# Altium integrated library Altium_WE-XTAL (rev19a).IntLib: 251 symbols (part 3 of 4)
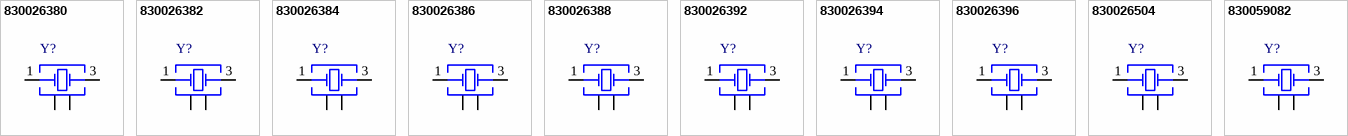
[diagram p19: symbols 830026380 to 830059082]

## 830026396
designator Y?, comment 24.576MHz, +/-30ppm, 16pF  (value not drawn)
WE-XTAL Quartz Crystal, size 12SMX, 24.576MHz, +/-30ppm, 16pF; Part Number: 830026396; Frequency Stability: 50ppm; ComponentLink1Description: Manufacturer; ComponentLink1URL: http://www.we-online.de; ComponentLink2Description: Datasheet; ComponentLink2URL: https://katalog.we-online.com/pbs/datasheet/830026396.pdf; Published Date: March 2019; Publisher: Wurth Elektronik; Size: 12SMX; Operating Temperature: -20 up to +70degC; Mounting Technology: SMT; Packaging: Tape and Reel; Load Capacitance: 16pF; Frequency Tolerance: +/-30ppm; Frequency: 24.576MHz
footprint WE-XTAL_12SMX
pins: 1 OSC1, 2 GND, 3 OSC2, 4 GND

## 830026504
designator Y?, comment 30MHz, +/-30ppm, 16pF  (value not drawn)
WE-XTAL Quartz Crystal, size 12SMX, 30MHz, +/-30ppm, 16pF; Part Number: 830026504; Frequency Stability: 50ppm; ComponentLink1Description: Manufacturer; ComponentLink1URL: http://www.we-online.de; ComponentLink2Description: Datasheet; ComponentLink2URL: https://katalog.we-online.com/pbs/datasheet/830026504.pdf; Published Date: March 2019; Publisher: Wurth Elektronik; Size: 12SMX; Operating Temperature: -20 up to +70degC; Mounting Technology: SMT; Packaging: Tape and Reel; Load Capacitance: 16pF; Frequency Tolerance: +/-30ppm; Frequency: 30MHz
footprint WE-XTAL_12SMX
pins: 1 OSC1, 2 GND, 3 OSC2, 4 GND

## 830059082
designator Y?, comment 8MHz, +/-20ppm, 10pF  (value not drawn)
WE-XTAL Quartz Crystal, size 12SMX, 8MHz, +/-20ppm, 10pF; Part Number: 830059082; Frequency Stability: 50ppm; ComponentLink1Description: Manufacturer; ComponentLink1URL: http://www.we-online.de; ComponentLink2Description: Datasheet; ComponentLink2URL: https://katalog.we-online.com/pbs/datasheet/830059082.pdf; Published Date: March 2019; Publisher: Wurth Elektronik; Size: 12SMX; Operating Temperature: -20 up to +70degC; Mounting Technology: SMT; Packaging: Tape and Reel; Load Capacitance: 10pF; Frequency Tolerance: +/-20ppm; Frequency: 8MHz
footprint WE-XTAL_12SMX
pins: 1 OSC1, 2 GND, 3 OSC2, 4 GND


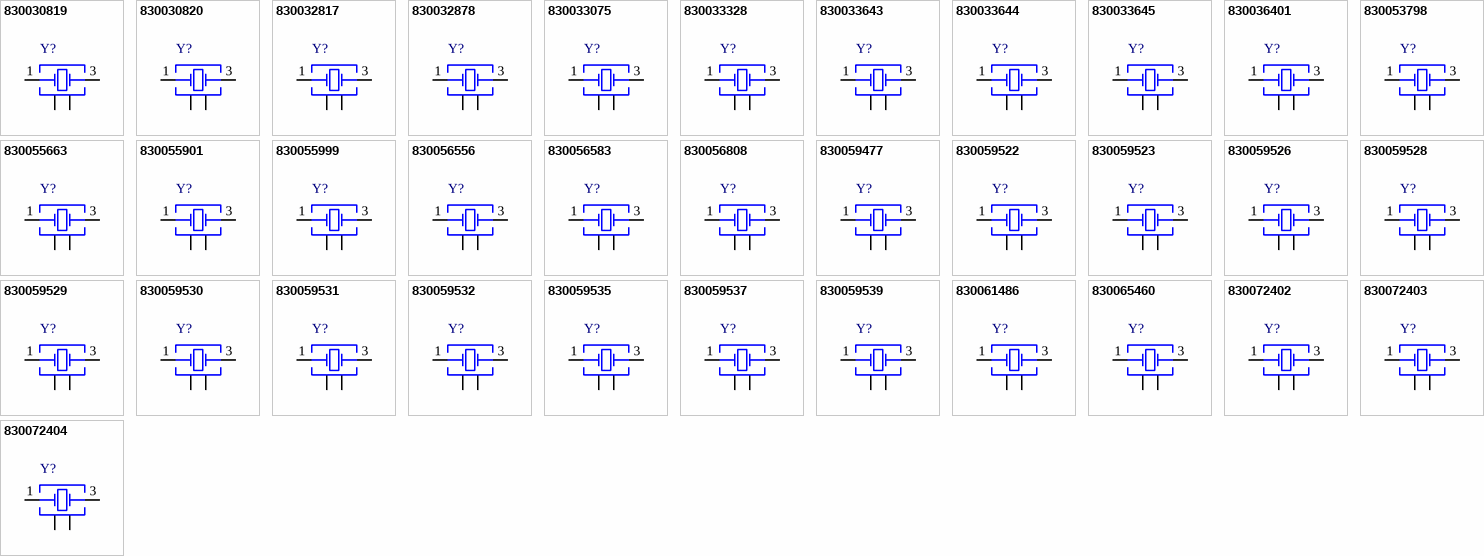
[diagram p11: symbols 830030819 to 830072404]

## 830030819
designator Y?, comment 16MHz, +/-50ppm, 18pF  (value not drawn)
WE-XTAL Quartz Crystal, size CFPX-104, 16MHz, +/-50ppm, 18pF; Part Number: 830030819; Frequency Stability: 50ppm; ComponentLink1Description: Manufacturer; ComponentLink1URL: http://www.we-online.de; ComponentLink2Description: Datasheet; ComponentLink2URL: https://katalog.we-online.com/pbs/datasheet/830030819.pdf; Published Date: March 2019; Publisher: Wurth Elektronik; Size: CFPX-104; Operating Temperature: -10 up to +60degC; Mounting Technology: SMT; Packaging: Tape and Reel; Load Capacitance: 18pF; Frequency Tolerance: +/-50ppm; Frequency: 16MHz
footprint WE-XTAL_CFPX-104
pins: 1 OSC1, 2 GND, 3 OSC2, 4 GND

## 830030820
designator Y?, comment 30MHz, +/-50ppm, 18pF  (value not drawn)
WE-XTAL Quartz Crystal, size CFPX-104, 30MHz, +/-50ppm, 18pF; Part Number: 830030820; Frequency Stability: 50ppm; ComponentLink1Description: Manufacturer; ComponentLink1URL: http://www.we-online.de; ComponentLink2Description: Datasheet; ComponentLink2URL: https://katalog.we-online.com/pbs/datasheet/830030820.pdf; Published Date: March 2019; Publisher: Wurth Elektronik; Size: CFPX-104; Operating Temperature: -10 up to +60degC; Mounting Technology: SMT; Packaging: Tape and Reel; Load Capacitance: 18pF; Frequency Tolerance: +/-50ppm; Frequency: 30MHz
footprint WE-XTAL_CFPX-104
pins: 1 OSC1, 2 GND, 3 OSC2, 4 GND

## 830032817
designator Y?, comment 24MHz, +/-50ppm, 18pF  (value not drawn)
WE-XTAL Quartz Crystal, size CFPX-104, 24MHz, +/-50ppm, 18pF; Part Number: 830032817; Frequency Stability: 50ppm; ComponentLink1Description: Manufacturer; ComponentLink1URL: http://www.we-online.de; ComponentLink2Description: Datasheet; ComponentLink2URL: https://katalog.we-online.com/pbs/datasheet/830032817.pdf; Published Date: March 2019; Publisher: Wurth Elektronik; Size: CFPX-104; Operating Temperature: -10 up to +60degC; Mounting Technology: SMT; Packaging: Tape and Reel; Load Capacitance: 18pF; Frequency Tolerance: +/-50ppm; Frequency: 24MHz
footprint WE-XTAL_CFPX-104
pins: 1 OSC1, 2 GND, 3 OSC2, 4 GND

## 830032878
designator Y?, comment 12MHz, +/-50ppm, 18pF  (value not drawn)
WE-XTAL Quartz Crystal, size CFPX-104, 12MHz, +/-50ppm, 18pF; Part Number: 830032878; Frequency Stability: 50ppm; ComponentLink1Description: Manufacturer; ComponentLink1URL: http://www.we-online.de; ComponentLink2Description: Datasheet; ComponentLink2URL: https://katalog.we-online.com/pbs/datasheet/830032878.pdf; Published Date: March 2019; Publisher: Wurth Elektronik; Size: CFPX-104; Operating Temperature: -10 up to +60degC; Mounting Technology: SMT; Packaging: Tape and Reel; Load Capacitance: 18pF; Frequency Tolerance: +/-50ppm; Frequency: 12MHz
footprint WE-XTAL_CFPX-104
pins: 1 OSC1, 2 GND, 3 OSC2, 4 GND

## 830033075
designator Y?, comment 25MHz, +/-50ppm, 18pF  (value not drawn)
WE-XTAL Quartz Crystal, size CFPX-104, 25MHz, +/-50ppm, 18pF; Part Number: 830033075; Frequency Stability: 50ppm; ComponentLink1Description: Manufacturer; ComponentLink1URL: http://www.we-online.de; ComponentLink2Description: Datasheet; ComponentLink2URL: https://katalog.we-online.com/pbs/datasheet/830033075.pdf; Published Date: March 2019; Publisher: Wurth Elektronik; Size: CFPX-104; Operating Temperature: -10 up to +60degC; Mounting Technology: SMT; Packaging: Tape and Reel; Load Capacitance: 18pF; Frequency Tolerance: +/-50ppm; Frequency: 25MHz
footprint WE-XTAL_CFPX-104
pins: 1 OSC1, 2 GND, 3 OSC2, 4 GND

## 830033328
designator Y?, comment 14.7456MHz, +/-50ppm, 18pF  (value not drawn)
WE-XTAL Quartz Crystal, size CFPX-104, 14.7456MHz, +/-50ppm, 18pF; Part Number: 830033328; Frequency Stability: 50ppm; ComponentLink1Description: Manufacturer; ComponentLink1URL: http://www.we-online.de; ComponentLink2Description: Datasheet; ComponentLink2URL: https://katalog.we-online.com/pbs/datasheet/830033328.pdf; Published Date: March 2019; Publisher: Wurth Elektronik; Size: CFPX-104; Operating Temperature: -10 up to +60degC; Mounting Technology: SMT; Packaging: Tape and Reel; Load Capacitance: 18pF; Frequency Tolerance: +/-50ppm; Frequency: 14.7456MHz
footprint WE-XTAL_CFPX-104
pins: 1 OSC1, 2 GND, 3 OSC2, 4 GND

## 830033643
designator Y?, comment 14.31818MHz, +/-50ppm, 18pF  (value not drawn)
WE-XTAL Quartz Crystal, size CFPX-104, 14.31818MHz, +/-50ppm, 18pF; Part Number: 830033643; Frequency Stability: 50ppm; ComponentLink1Description: Manufacturer; ComponentLink1URL: http://www.we-online.de; ComponentLink2Description: Datasheet; ComponentLink2URL: https://katalog.we-online.com/pbs/datasheet/830033643.pdf; Published Date: March 2019; Publisher: Wurth Elektronik; Size: CFPX-104; Operating Temperature: -10 up to +60degC; Mounting Technology: SMT; Packaging: Tape and Reel; Load Capacitance: 18pF; Frequency Tolerance: +/-50ppm; Frequency: 14.31818MHz
footprint WE-XTAL_CFPX-104
pins: 1 OSC1, 2 GND, 3 OSC2, 4 GND

## 830033644
designator Y?, comment 24.576MHz, +/-50ppm, 18pF  (value not drawn)
WE-XTAL Quartz Crystal, size CFPX-104, 24.576MHz, +/-50ppm, 18pF; Part Number: 830033644; Frequency Stability: 50ppm; ComponentLink1Description: Manufacturer; ComponentLink1URL: http://www.we-online.de; ComponentLink2Description: Datasheet; ComponentLink2URL: https://katalog.we-online.com/pbs/datasheet/830033644.pdf; Published Date: March 2019; Publisher: Wurth Elektronik; Size: CFPX-104; Operating Temperature: -10 up to +60degC; Mounting Technology: SMT; Packaging: Tape and Reel; Load Capacitance: 18pF; Frequency Tolerance: +/-50ppm; Frequency: 24.576MHz
footprint WE-XTAL_CFPX-104
pins: 1 OSC1, 2 GND, 3 OSC2, 4 GND

## 830033645
designator Y?, comment 40MHz, +/-50ppm, 18pF  (value not drawn)
WE-XTAL Quartz Crystal, size CFPX-104, 40MHz, +/-50ppm, 18pF; Part Number: 830033645; Frequency Stability: 50ppm; ComponentLink1Description: Manufacturer; ComponentLink1URL: http://www.we-online.de; ComponentLink2Description: Datasheet; ComponentLink2URL: https://katalog.we-online.com/pbs/datasheet/830033645.pdf; Published Date: March 2019; Publisher: Wurth Elektronik; Size: CFPX-104; Operating Temperature: -10 up to +60degC; Mounting Technology: SMT; Packaging: Tape and Reel; Load Capacitance: 18pF; Frequency Tolerance: +/-50ppm; Frequency: 40MHz
footprint WE-XTAL_CFPX-104
pins: 1 OSC1, 2 GND, 3 OSC2, 4 GND

## 830036401
designator Y?, comment 12MHz, +/-20ppm, 18pF  (value not drawn)
WE-XTAL Quartz Crystal, size CFPX-104, 12MHz, +/-20ppm, 18pF; Part Number: 830036401; Frequency Stability: 50ppm; ComponentLink1Description: Manufacturer; ComponentLink1URL: http://www.we-online.de; ComponentLink2Description: Datasheet; ComponentLink2URL: https://katalog.we-online.com/pbs/datasheet/830036401.pdf; Published Date: March 2019; Publisher: Wurth Elektronik; Size: CFPX-104; Operating Temperature: -20 up to +70degC; Mounting Technology: SMT; Packaging: Tape and Reel; Load Capacitance: 18pF; Frequency Tolerance: +/-20ppm; Frequency: 12MHz
footprint WE-XTAL_CFPX-104
pins: 1 OSC1, 2 GND, 3 OSC2, 4 GND

## 830053798
designator Y?, comment 24MHz, +/-10ppm, 18pF  (value not drawn)
WE-XTAL Quartz Crystal, size CFPX-104, 24MHz, +/-10ppm, 18pF; Part Number: 830053798; Frequency Stability: 25ppm; ComponentLink1Description: Manufacturer; ComponentLink1URL: http://www.we-online.de; ComponentLink2Description: Datasheet; ComponentLink2URL: https://katalog.we-online.com/pbs/datasheet/830053798.pdf; Published Date: March 2019; Publisher: Wurth Elektronik; Size: CFPX-104; Operating Temperature: -40 up to +85degC; Mounting Technology: SMT; Packaging: Tape and Reel; Load Capacitance: 18pF; Frequency Tolerance: +/-10ppm; Frequency: 24MHz
footprint WE-XTAL_CFPX-104
pins: 1 OSC1, 2 GND, 3 OSC2, 4 GND

## 830055663
designator Y?, comment 8MHz, +/-20ppm, 18pF  (value not drawn)
WE-XTAL Quartz Crystal, size CFPX-104, 8MHz, +/-20ppm, 18pF; Part Number: 830055663; Frequency Stability: 30ppm; ComponentLink1Description: Manufacturer; ComponentLink1URL: http://www.we-online.de; ComponentLink2Description: Datasheet; ComponentLink2URL: https://katalog.we-online.com/pbs/datasheet/830055663.pdf; Published Date: March 2019; Publisher: Wurth Elektronik; Size: CFPX-104; Operating Temperature: -40 up to +85degC; Mounting Technology: SMT; Packaging: Tape and Reel; Load Capacitance: 18pF; Frequency Tolerance: +/-20ppm; Frequency: 8MHz
footprint WE-XTAL_CFPX-104
pins: 1 OSC1, 2 GND, 3 OSC2, 4 GND

## 830055901
designator Y?, comment 8MHz, +/-20ppm, 18pF  (value not drawn)
WE-XTAL Quartz Crystal, size CFPX-104, 8MHz, +/-20ppm, 18pF; Part Number: 830055901; Frequency Stability: 50ppm; ComponentLink1Description: Manufacturer; ComponentLink1URL: http://www.we-online.de; ComponentLink2Description: Datasheet; ComponentLink2URL: https://katalog.we-online.com/pbs/datasheet/830055901.pdf; Published Date: March 2019; Publisher: Wurth Elektronik; Size: CFPX-104; Operating Temperature: -20 up to +70degC; Mounting Technology: SMT; Packaging: Tape and Reel; Load Capacitance: 18pF; Frequency Tolerance: +/-20ppm; Frequency: 8MHz
footprint WE-XTAL_CFPX-104
pins: 1 OSC1, 2 GND, 3 OSC2, 4 GND

## 830055999
designator Y?, comment 12MHz, +/-30ppm, 18pF  (value not drawn)
WE-XTAL Quartz Crystal, size CFPX-104, 12MHz, +/-30ppm, 18pF; Part Number: 830055999; Frequency Stability: 30ppm; ComponentLink1Description: Manufacturer; ComponentLink1URL: http://www.we-online.de; ComponentLink2Description: Datasheet; ComponentLink2URL: https://katalog.we-online.com/pbs/datasheet/830055999.pdf; Published Date: March 2019; Publisher: Wurth Elektronik; Size: CFPX-104; Operating Temperature: -40 up to +85degC; Mounting Technology: SMT; Packaging: Tape and Reel; Load Capacitance: 18pF; Frequency Tolerance: +/-30ppm; Frequency: 12MHz
footprint WE-XTAL_CFPX-104
pins: 1 OSC1, 2 GND, 3 OSC2, 4 GND

## 830056556
designator Y?, comment 12.5MHz, +/-50ppm, 18pF  (value not drawn)
WE-XTAL Quartz Crystal, size CFPX-104, 12.5MHz, +/-50ppm, 18pF; Part Number: 830056556; Frequency Stability: 50ppm; ComponentLink1Description: Manufacturer; ComponentLink1URL: http://www.we-online.de; ComponentLink2Description: Datasheet; ComponentLink2URL: https://katalog.we-online.com/pbs/datasheet/830056556.pdf; Published Date: March 2019; Publisher: Wurth Elektronik; Size: CFPX-104; Operating Temperature: -40 up to +85degC; Mounting Technology: SMT; Packaging: Tape and Reel; Load Capacitance: 18pF; Frequency Tolerance: +/-50ppm; Frequency: 12.5MHz
footprint WE-XTAL_CFPX-104
pins: 1 OSC1, 2 GND, 3 OSC2, 4 GND

## 830056583
designator Y?, comment 10MHz, +/-30ppm, 12pF  (value not drawn)
WE-XTAL Quartz Crystal, size CFPX-104, 10MHz, +/-30ppm, 12pF; Part Number: 830056583; Frequency Stability: 30ppm; ComponentLink1Description: Manufacturer; ComponentLink1URL: http://www.we-online.de; ComponentLink2Description: Datasheet; ComponentLink2URL: https://katalog.we-online.com/pbs/datasheet/830056583.pdf; Published Date: March 2019; Publisher: Wurth Elektronik; Size: CFPX-104; Operating Temperature: -40 up to +85degC; Mounting Technology: SMT; Packaging: Tape and Reel; Load Capacitance: 12pF; Frequency Tolerance: +/-30ppm; Frequency: 10MHz
footprint WE-XTAL_CFPX-104
pins: 1 OSC1, 2 GND, 3 OSC2, 4 GND

## 830056808
designator Y?, comment 20MHz, +/-20ppm, 18pF  (value not drawn)
WE-XTAL Quartz Crystal, size CFPX-104, 20MHz, +/-20ppm, 18pF; Part Number: 830056808; Frequency Stability: 30ppm; ComponentLink1Description: Manufacturer; ComponentLink1URL: http://www.we-online.de; ComponentLink2Description: Datasheet; ComponentLink2URL: https://katalog.we-online.com/pbs/datasheet/830056808.pdf; Published Date: March 2019; Publisher: Wurth Elektronik; Size: CFPX-104; Operating Temperature: -40 up to +85degC; Mounting Technology: SMT; Packaging: Tape and Reel; Load Capacitance: 18pF; Frequency Tolerance: +/-20ppm; Frequency: 20MHz
footprint WE-XTAL_CFPX-104
pins: 1 OSC1, 2 GND, 3 OSC2, 4 GND

## 830059477
designator Y?, comment 12.8MHz, +/-10ppm, 15pF  (value not drawn)
WE-XTAL Quartz Crystal, size CFPX-104, 12.8MHz, +/-10ppm, 15pF; Part Number: 830059477; Frequency Stability: 20ppm; ComponentLink1Description: Manufacturer; ComponentLink1URL: http://www.we-online.de; ComponentLink2Description: Datasheet; ComponentLink2URL: https://katalog.we-online.com/pbs/datasheet/830059477.pdf; Published Date: March 2019; Publisher: Wurth Elektronik; Size: CFPX-104; Operating Temperature: -40 up to +85degC; Mounting Technology: SMT; Packaging: Tape and Reel; Load Capacitance: 15pF; Frequency Tolerance: +/-10ppm; Frequency: 12.8MHz
footprint WE-XTAL_CFPX-104
pins: 1 OSC1, 2 GND, 3 OSC2, 4 GND

## 830059522
designator Y?, comment 12MHz, +/-20ppm, 18pF  (value not drawn)
WE-XTAL Quartz Crystal, size CFPX-104, 12MHz, +/-20ppm, 18pF; Part Number: 830059522; Frequency Stability: 30ppm; ComponentLink1Description: Manufacturer; ComponentLink1URL: http://www.we-online.de; ComponentLink2Description: Datasheet; ComponentLink2URL: https://katalog.we-online.com/pbs/datasheet/830059522.pdf; Published Date: March 2019; Publisher: Wurth Elektronik; Size: CFPX-104; Operating Temperature: -40 up to +85degC; Mounting Technology: SMT; Packaging: Tape and Reel; Load Capacitance: 18pF; Frequency Tolerance: +/-20ppm; Frequency: 12MHz
footprint WE-XTAL_CFPX-104
pins: 1 OSC1, 2 GND, 3 OSC2, 4 GND

## 830059523
designator Y?, comment 12.288MHz, +/-20ppm, 18pF  (value not drawn)
WE-XTAL Quartz Crystal, size CFPX-104, 12.288MHz, +/-20ppm, 18pF; Part Number: 830059523; Frequency Stability: 30ppm; ComponentLink1Description: Manufacturer; ComponentLink1URL: http://www.we-online.de; ComponentLink2Description: Datasheet; ComponentLink2URL: https://katalog.we-online.com/pbs/datasheet/830059523.pdf; Published Date: March 2019; Publisher: Wurth Elektronik; Size: CFPX-104; Operating Temperature: -40 up to +85degC; Mounting Technology: SMT; Packaging: Tape and Reel; Load Capacitance: 18pF; Frequency Tolerance: +/-20ppm; Frequency: 12.288MHz
footprint WE-XTAL_CFPX-104
pins: 1 OSC1, 2 GND, 3 OSC2, 4 GND

## 830059526
designator Y?, comment 14.31818MHz, +/-20ppm, 18pF  (value not drawn)
WE-XTAL Quartz Crystal, size CFPX-104, 14.31818MHz, +/-20ppm, 18pF; Part Number: 830059526; Frequency Stability: 30ppm; ComponentLink1Description: Manufacturer; ComponentLink1URL: http://www.we-online.de; ComponentLink2Description: Datasheet; ComponentLink2URL: https://katalog.we-online.com/pbs/datasheet/830059526.pdf; Published Date: March 2019; Publisher: Wurth Elektronik; Size: CFPX-104; Operating Temperature: -40 up to +85degC; Mounting Technology: SMT; Packaging: Tape and Reel; Load Capacitance: 18pF; Frequency Tolerance: +/-20ppm; Frequency: 14.31818MHz
footprint WE-XTAL_CFPX-104
pins: 1 OSC1, 2 GND, 3 OSC2, 4 GND

## 830059528
designator Y?, comment 16.384MHz, +/-20ppm, 18pF  (value not drawn)
WE-XTAL Quartz Crystal, size CFPX-104, 16.384MHz, +/-20ppm, 18pF; Part Number: 830059528; Frequency Stability: 30ppm; ComponentLink1Description: Manufacturer; ComponentLink1URL: http://www.we-online.de; ComponentLink2Description: Datasheet; ComponentLink2URL: https://katalog.we-online.com/pbs/datasheet/830059528.pdf; Published Date: March 2019; Publisher: Wurth Elektronik; Size: CFPX-104; Operating Temperature: -40 up to +85degC; Mounting Technology: SMT; Packaging: Tape and Reel; Load Capacitance: 18pF; Frequency Tolerance: +/-20ppm; Frequency: 16.384MHz
footprint WE-XTAL_CFPX-104
pins: 1 OSC1, 2 GND, 3 OSC2, 4 GND

## 830059529
designator Y?, comment 18.432MHz, +/-20ppm, 18pF  (value not drawn)
WE-XTAL Quartz Crystal, size CFPX-104, 18.432MHz, +/-20ppm, 18pF; Part Number: 830059529; Frequency Stability: 30ppm; ComponentLink1Description: Manufacturer; ComponentLink1URL: http://www.we-online.de; ComponentLink2Description: Datasheet; ComponentLink2URL: https://katalog.we-online.com/pbs/datasheet/830059529.pdf; Published Date: March 2019; Publisher: Wurth Elektronik; Size: CFPX-104; Operating Temperature: -40 up to +85degC; Mounting Technology: SMT; Packaging: Tape and Reel; Load Capacitance: 18pF; Frequency Tolerance: +/-20ppm; Frequency: 18.432MHz
footprint WE-XTAL_CFPX-104
pins: 1 OSC1, 2 GND, 3 OSC2, 4 GND

## 830059530
designator Y?, comment 24MHz, +/-20ppm, 18pF  (value not drawn)
WE-XTAL Quartz Crystal, size CFPX-104, 24MHz, +/-20ppm, 18pF; Part Number: 830059530; Frequency Stability: 30ppm; ComponentLink1Description: Manufacturer; ComponentLink1URL: http://www.we-online.de; ComponentLink2Description: Datasheet; ComponentLink2URL: https://katalog.we-online.com/pbs/datasheet/830059530.pdf; Published Date: March 2019; Publisher: Wurth Elektronik; Size: CFPX-104; Operating Temperature: -40 up to +85degC; Mounting Technology: SMT; Packaging: Tape and Reel; Load Capacitance: 18pF; Frequency Tolerance: +/-20ppm; Frequency: 24MHz
footprint WE-XTAL_CFPX-104
pins: 1 OSC1, 2 GND, 3 OSC2, 4 GND

## 830059531
designator Y?, comment 24.576MHz, +/-20ppm, 18pF  (value not drawn)
WE-XTAL Quartz Crystal, size CFPX-104, 24.576MHz, +/-20ppm, 18pF; Part Number: 830059531; Frequency Stability: 30ppm; ComponentLink1Description: Manufacturer; ComponentLink1URL: http://www.we-online.de; ComponentLink2Description: Datasheet; ComponentLink2URL: https://katalog.we-online.com/pbs/datasheet/830059531.pdf; Published Date: March 2019; Publisher: Wurth Elektronik; Size: CFPX-104; Operating Temperature: -40 up to +85degC; Mounting Technology: SMT; Packaging: Tape and Reel; Load Capacitance: 18pF; Frequency Tolerance: +/-20ppm; Frequency: 24.576MHz
footprint WE-XTAL_CFPX-104
pins: 1 OSC1, 2 GND, 3 OSC2, 4 GND

## 830059532
designator Y?, comment 25MHz, +/-20ppm, 18pF  (value not drawn)
WE-XTAL Quartz Crystal, size CFPX-104, 25MHz, +/-20ppm, 18pF; Part Number: 830059532; Frequency Stability: 30ppm; ComponentLink1Description: Manufacturer; ComponentLink1URL: http://www.we-online.de; ComponentLink2Description: Datasheet; ComponentLink2URL: https://katalog.we-online.com/pbs/datasheet/830059532.pdf; Published Date: March 2019; Publisher: Wurth Elektronik; Size: CFPX-104; Operating Temperature: -40 up to +85degC; Mounting Technology: SMT; Packaging: Tape and Reel; Load Capacitance: 18pF; Frequency Tolerance: +/-20ppm; Frequency: 25MHz
footprint WE-XTAL_CFPX-104
pins: 1 OSC1, 2 GND, 3 OSC2, 4 GND

## 830059535
designator Y?, comment 32MHz, +/-20ppm, 18pF  (value not drawn)
WE-XTAL Quartz Crystal, size CFPX-104, 32MHz, +/-20ppm, 18pF; Part Number: 830059535; Frequency Stability: 30ppm; ComponentLink1Description: Manufacturer; ComponentLink1URL: http://www.we-online.de; ComponentLink2Description: Datasheet; ComponentLink2URL: https://katalog.we-online.com/pbs/datasheet/830059535.pdf; Published Date: March 2019; Publisher: Wurth Elektronik; Size: CFPX-104; Operating Temperature: -40 up to +85degC; Mounting Technology: SMT; Packaging: Tape and Reel; Load Capacitance: 18pF; Frequency Tolerance: +/-20ppm; Frequency: 32MHz
footprint WE-XTAL_CFPX-104
pins: 1 OSC1, 2 GND, 3 OSC2, 4 GND

## 830059537
designator Y?, comment 40MHz, +/-20ppm, 18pF  (value not drawn)
WE-XTAL Quartz Crystal, size CFPX-104, 40MHz, +/-20ppm, 18pF; Part Number: 830059537; Frequency Stability: 30ppm; ComponentLink1Description: Manufacturer; ComponentLink1URL: http://www.we-online.de; ComponentLink2Description: Datasheet; ComponentLink2URL: https://katalog.we-online.com/pbs/datasheet/830059537.pdf; Published Date: March 2019; Publisher: Wurth Elektronik; Size: CFPX-104; Operating Temperature: -40 up to +85degC; Mounting Technology: SMT; Packaging: Tape and Reel; Load Capacitance: 18pF; Frequency Tolerance: +/-20ppm; Frequency: 40MHz
footprint WE-XTAL_CFPX-104
pins: 1 OSC1, 2 GND, 3 OSC2, 4 GND

## 830059539
designator Y?, comment 48MHz, +/-20ppm, 18pF  (value not drawn)
WE-XTAL Quartz Crystal, size CFPX-104, 48MHz, +/-20ppm, 18pF; Part Number: 830059539; Frequency Stability: 30ppm; ComponentLink1Description: Manufacturer; ComponentLink1URL: http://www.we-online.de; ComponentLink2Description: Datasheet; ComponentLink2URL: https://katalog.we-online.com/pbs/datasheet/830059539.pdf; Published Date: March 2019; Publisher: Wurth Elektronik; Size: CFPX-104; Operating Temperature: -40 up to +85degC; Mounting Technology: SMT; Packaging: Tape and Reel; Load Capacitance: 18pF; Frequency Tolerance: +/-20ppm; Frequency: 48MHz
footprint WE-XTAL_CFPX-104
pins: 1 OSC1, 2 GND, 3 OSC2, 4 GND

## 830061486
designator Y?, comment 8.192MHz, +/-30ppm, 10pF  (value not drawn)
WE-XTAL Quartz Crystal, size CFPX-104, 8.192MHz, +/-30ppm, 10pF; Part Number: 830061486; Frequency Stability: 50ppm; ComponentLink1Description: Manufacturer; ComponentLink1URL: http://www.we-online.de; ComponentLink2Description: Datasheet; ComponentLink2URL: https://katalog.we-online.com/pbs/datasheet/830061486.pdf; Published Date: March 2019; Publisher: Wurth Elektronik; Size: CFPX-104; Operating Temperature: -40 up to +85degC; Mounting Technology: SMT; Packaging: Tape and Reel; Load Capacitance: 10pF; Frequency Tolerance: +/-30ppm; Frequency: 8.192MHz
footprint WE-XTAL_CFPX-104
pins: 1 OSC1, 2 GND, 3 OSC2, 4 GND

## 830065460
designator Y?, comment 30MHz, +/-10ppm, 10pF  (value not drawn)
WE-XTAL Quartz Crystal, size CFPX-104, 30MHz, +/-10ppm, 10pF; Part Number: 830065460; Frequency Stability: 20ppm; ComponentLink1Description: Manufacturer; ComponentLink1URL: http://www.we-online.de; ComponentLink2Description: Datasheet; ComponentLink2URL: https://katalog.we-online.com/pbs/datasheet/830065460.pdf; Published Date: March 2019; Publisher: Wurth Elektronik; Size: CFPX-104; Operating Temperature: -40 up to +85degC; Mounting Technology: SMT; Packaging: Tape and Reel; Load Capacitance: 10pF; Frequency Tolerance: +/-10ppm; Frequency: 30MHz
footprint WE-XTAL_CFPX-104
pins: 1 OSC1, 2 GND, 3 OSC2, 4 GND

## 830072402
designator Y?, comment 10MHz, +/-20ppm, 18pF  (value not drawn)
WE-XTAL Quartz Crystal, size CFPX-104, 10MHz, +/-20ppm, 18pF; Part Number: 830072402; Frequency Stability: 30ppm; ComponentLink1Description: Manufacturer; ComponentLink1URL: http://www.we-online.de; ComponentLink2Description: Datasheet; ComponentLink2URL: https://katalog.we-online.com/pbs/datasheet/830072402.pdf; Published Date: March 2019; Publisher: Wurth Elektronik; Size: CFPX-104; Operating Temperature: -40 up to +85degC; Mounting Technology: SMT; Packaging: Tape and Reel; Load Capacitance: 18pF; Frequency Tolerance: +/-20ppm; Frequency: 10MHz
footprint WE-XTAL_CFPX-104
pins: 1 OSC1, 2 GND, 3 OSC2, 4 GND

## 830072403
designator Y?, comment 14.7456MHz, +/-20ppm, 18pF  (value not drawn)
WE-XTAL Quartz Crystal, size CFPX-104, 14.7456MHz, +/-20ppm, 18pF; Part Number: 830072403; Frequency Stability: 30ppm; ComponentLink1Description: Manufacturer; ComponentLink1URL: http://www.we-online.de; ComponentLink2Description: Datasheet; ComponentLink2URL: https://katalog.we-online.com/pbs/datasheet/830072403.pdf; Published Date: March 2019; Publisher: Wurth Elektronik; Size: CFPX-104; Operating Temperature: -40 up to +85degC; Mounting Technology: SMT; Packaging: Tape and Reel; Load Capacitance: 18pF; Frequency Tolerance: +/-20ppm; Frequency: 14.7456MHz
footprint WE-XTAL_CFPX-104
pins: 1 OSC1, 2 GND, 3 OSC2, 4 GND

## 830072404
designator Y?, comment 26MHz, +/-20ppm, 18pF  (value not drawn)
WE-XTAL Quartz Crystal, size CFPX-104, 26MHz, +/-20ppm, 18pF; Part Number: 830072404; Frequency Stability: 30ppm; ComponentLink1Description: Manufacturer; ComponentLink1URL: http://www.we-online.de; ComponentLink2Description: Datasheet; ComponentLink2URL: https://katalog.we-online.com/pbs/datasheet/830072404.pdf; Published Date: March 2019; Publisher: Wurth Elektronik; Size: CFPX-104; Operating Temperature: -40 up to +85degC; Mounting Technology: SMT; Packaging: Tape and Reel; Load Capacitance: 18pF; Frequency Tolerance: +/-20ppm; Frequency: 26MHz
footprint WE-XTAL_CFPX-104
pins: 1 OSC1, 2 GND, 3 OSC2, 4 GND


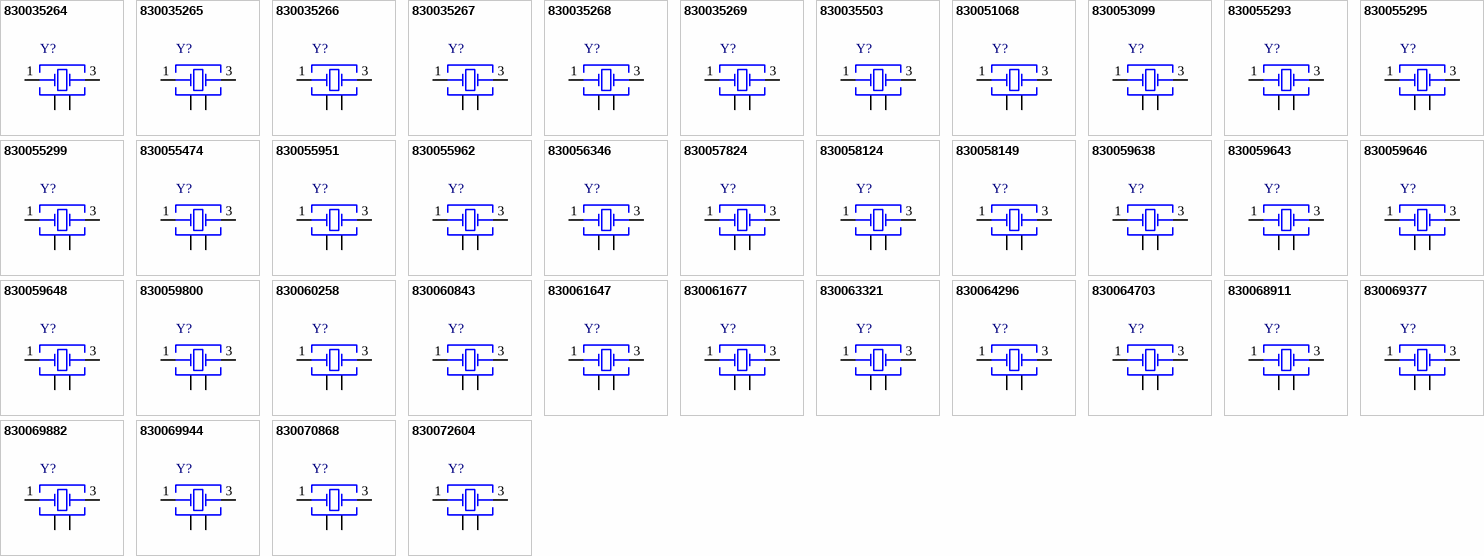
[diagram p12: symbols 830035264 to 830072604]

## 830035264
designator Y?, comment 16MHz, +/-50ppm, 16pF  (value not drawn)
WE-XTAL Quartz Crystal, size CFPX-180, 16MHz, +/-50ppm, 16pF; Part Number: 830035264; Frequency Stability: 50ppm; ComponentLink1Description: Manufacturer; ComponentLink1URL: http://www.we-online.de; ComponentLink2Description: Datasheet; ComponentLink2URL: https://katalog.we-online.com/pbs/datasheet/830035264.pdf; Published Date: March 2019; Publisher: Wurth Elektronik; Size: CFPX-180; Operating Temperature: -10 up to +60degC; Mounting Technology: SMT; Packaging: Tape and Reel; Load Capacitance: 16pF; Frequency Tolerance: +/-50ppm; Frequency: 16MHz
footprint WE-XTAL_CFPX-180
pins: 1 OSC1, 2 GND, 3 OSC2, 4 GND

## 830035265
designator Y?, comment 20MHz, +/-50ppm, 16pF  (value not drawn)
WE-XTAL Quartz Crystal, size CFPX-180, 20MHz, +/-50ppm, 16pF; Part Number: 830035265; Frequency Stability: 50ppm; ComponentLink1Description: Manufacturer; ComponentLink1URL: http://www.we-online.de; ComponentLink2Description: Datasheet; ComponentLink2URL: https://katalog.we-online.com/pbs/datasheet/830035265.pdf; Published Date: March 2019; Publisher: Wurth Elektronik; Size: CFPX-180; Operating Temperature: -10 up to +60degC; Mounting Technology: SMT; Packaging: Tape and Reel; Load Capacitance: 16pF; Frequency Tolerance: +/-50ppm; Frequency: 20MHz
footprint WE-XTAL_CFPX-180
pins: 1 OSC1, 2 GND, 3 OSC2, 4 GND

## 830035266
designator Y?, comment 24MHz, +/-50ppm, 16pF  (value not drawn)
WE-XTAL Quartz Crystal, size CFPX-180, 24MHz, +/-50ppm, 16pF; Part Number: 830035266; Frequency Stability: 50ppm; ComponentLink1Description: Manufacturer; ComponentLink1URL: http://www.we-online.de; ComponentLink2Description: Datasheet; ComponentLink2URL: https://katalog.we-online.com/pbs/datasheet/830035266.pdf; Published Date: March 2019; Publisher: Wurth Elektronik; Size: CFPX-180; Operating Temperature: -10 up to +60degC; Mounting Technology: SMT; Packaging: Tape and Reel; Load Capacitance: 16pF; Frequency Tolerance: +/-50ppm; Frequency: 24MHz
footprint WE-XTAL_CFPX-180
pins: 1 OSC1, 2 GND, 3 OSC2, 4 GND

## 830035267
designator Y?, comment 24.576MHz, +/-50ppm, 16pF  (value not drawn)
WE-XTAL Quartz Crystal, size CFPX-180, 24.576MHz, +/-50ppm, 16pF; Part Number: 830035267; Frequency Stability: 50ppm; ComponentLink1Description: Manufacturer; ComponentLink1URL: http://www.we-online.de; ComponentLink2Description: Datasheet; ComponentLink2URL: https://katalog.we-online.com/pbs/datasheet/830035267.pdf; Published Date: March 2019; Publisher: Wurth Elektronik; Size: CFPX-180; Operating Temperature: -10 up to +60degC; Mounting Technology: SMT; Packaging: Tape and Reel; Load Capacitance: 16pF; Frequency Tolerance: +/-50ppm; Frequency: 24.576MHz
footprint WE-XTAL_CFPX-180
pins: 1 OSC1, 2 GND, 3 OSC2, 4 GND

## 830035268
designator Y?, comment 25MHz, +/-50ppm, 16pF  (value not drawn)
WE-XTAL Quartz Crystal, size CFPX-180, 25MHz, +/-50ppm, 16pF; Part Number: 830035268; Frequency Stability: 50ppm; ComponentLink1Description: Manufacturer; ComponentLink1URL: http://www.we-online.de; ComponentLink2Description: Datasheet; ComponentLink2URL: https://katalog.we-online.com/pbs/datasheet/830035268.pdf; Published Date: March 2019; Publisher: Wurth Elektronik; Size: CFPX-180; Operating Temperature: -10 up to +60degC; Mounting Technology: SMT; Packaging: Tape and Reel; Load Capacitance: 16pF; Frequency Tolerance: +/-50ppm; Frequency: 25MHz
footprint WE-XTAL_CFPX-180
pins: 1 OSC1, 2 GND, 3 OSC2, 4 GND

## 830035269
designator Y?, comment 30MHz, +/-50ppm, 16pF  (value not drawn)
WE-XTAL Quartz Crystal, size CFPX-180, 30MHz, +/-50ppm, 16pF; Part Number: 830035269; Frequency Stability: 50ppm; ComponentLink1Description: Manufacturer; ComponentLink1URL: http://www.we-online.de; ComponentLink2Description: Datasheet; ComponentLink2URL: https://katalog.we-online.com/pbs/datasheet/830035269.pdf; Published Date: March 2019; Publisher: Wurth Elektronik; Size: CFPX-180; Operating Temperature: -10 up to +60degC; Mounting Technology: SMT; Packaging: Tape and Reel; Load Capacitance: 16pF; Frequency Tolerance: +/-50ppm; Frequency: 30MHz
footprint WE-XTAL_CFPX-180
pins: 1 OSC1, 2 GND, 3 OSC2, 4 GND

## 830035503
designator Y?, comment 16.384MHz, +/-50ppm, 16pF  (value not drawn)
WE-XTAL Quartz Crystal, size CFPX-180, 16.384MHz, +/-50ppm, 16pF; Part Number: 830035503; Frequency Stability: 50ppm; ComponentLink1Description: Manufacturer; ComponentLink1URL: http://www.we-online.de; ComponentLink2Description: Datasheet; ComponentLink2URL: https://katalog.we-online.com/pbs/datasheet/830035503.pdf; Published Date: March 2019; Publisher: Wurth Elektronik; Size: CFPX-180; Operating Temperature: -10 up to +60degC; Mounting Technology: SMT; Packaging: Tape and Reel; Load Capacitance: 16pF; Frequency Tolerance: +/-50ppm; Frequency: 16.384MHz
footprint WE-XTAL_CFPX-180
pins: 1 OSC1, 2 GND, 3 OSC2, 4 GND

## 830051068
designator Y?, comment 25MHz, +/-10ppm, 9pF  (value not drawn)
WE-XTAL Quartz Crystal, size CFPX-180, 25MHz, +/-10ppm, 9pF; Part Number: 830051068; Frequency Stability: 10ppm; ComponentLink1Description: Manufacturer; ComponentLink1URL: http://www.we-online.de; ComponentLink2Description: Datasheet; ComponentLink2URL: https://katalog.we-online.com/pbs/datasheet/830051068.pdf; Published Date: March 2019; Publisher: Wurth Elektronik; Size: CFPX-180; Operating Temperature: -20 up to +70degC; Mounting Technology: SMT; Packaging: Tape and Reel; Load Capacitance: 9pF; Frequency Tolerance: +/-10ppm; Frequency: 25MHz
footprint WE-XTAL_CFPX-180
pins: 1 OSC1, 2 GND, 3 OSC2, 4 GND

## 830053099
designator Y?, comment 27.12MHz, +/-10ppm, 10pF  (value not drawn)
WE-XTAL Quartz Crystal, size CFPX-180, 27.12MHz, +/-10ppm, 10pF; Part Number: 830053099; Frequency Stability: 10ppm; ComponentLink1Description: Manufacturer; ComponentLink1URL: http://www.we-online.de; ComponentLink2Description: Datasheet; ComponentLink2URL: https://katalog.we-online.com/pbs/datasheet/830053099.pdf; Published Date: March 2019; Publisher: Wurth Elektronik; Size: CFPX-180; Operating Temperature: -20 up to +70degC; Mounting Technology: SMT; Packaging: Tape and Reel; Load Capacitance: 10pF; Frequency Tolerance: +/-10ppm; Frequency: 27.12MHz
footprint WE-XTAL_CFPX-180
pins: 1 OSC1, 2 GND, 3 OSC2, 4 GND

## 830055293
designator Y?, comment 14.7456MHz, +/-20ppm, 18pF  (value not drawn)
WE-XTAL Quartz Crystal, size CFPX-180, 14.7456MHz, +/-20ppm, 18pF; Part Number: 830055293; Frequency Stability: 30ppm; ComponentLink1Description: Manufacturer; ComponentLink1URL: http://www.we-online.de; ComponentLink2Description: Datasheet; ComponentLink2URL: https://katalog.we-online.com/pbs/datasheet/830055293.pdf; Published Date: March 2019; Publisher: Wurth Elektronik; Size: CFPX-180; Operating Temperature: -40 up to +85degC; Mounting Technology: SMT; Packaging: Tape and Reel; Load Capacitance: 18pF; Frequency Tolerance: +/-20ppm; Frequency: 14.7456MHz
footprint WE-XTAL_CFPX-180
pins: 1 OSC1, 2 GND, 3 OSC2, 4 GND

## 830055295
designator Y?, comment 12MHz, +/-20ppm, 18pF  (value not drawn)
WE-XTAL Quartz Crystal, size CFPX-180, 12MHz, +/-20ppm, 18pF; Part Number: 830055295; Frequency Stability: 30ppm; ComponentLink1Description: Manufacturer; ComponentLink1URL: http://www.we-online.de; ComponentLink2Description: Datasheet; ComponentLink2URL: https://katalog.we-online.com/pbs/datasheet/830055295.pdf; Published Date: March 2019; Publisher: Wurth Elektronik; Size: CFPX-180; Operating Temperature: -40 up to +85degC; Mounting Technology: SMT; Packaging: Tape and Reel; Load Capacitance: 18pF; Frequency Tolerance: +/-20ppm; Frequency: 12MHz
footprint WE-XTAL_CFPX-180
pins: 1 OSC1, 2 GND, 3 OSC2, 4 GND

## 830055299
designator Y?, comment 25MHz, +/-20ppm, 18pF  (value not drawn)
WE-XTAL Quartz Crystal, size CFPX-180, 25MHz, +/-20ppm, 18pF; Part Number: 830055299; Frequency Stability: 30ppm; ComponentLink1Description: Manufacturer; ComponentLink1URL: http://www.we-online.de; ComponentLink2Description: Datasheet; ComponentLink2URL: https://katalog.we-online.com/pbs/datasheet/830055299.pdf; Published Date: March 2019; Publisher: Wurth Elektronik; Size: CFPX-180; Operating Temperature: -40 up to +85degC; Mounting Technology: SMT; Packaging: Tape and Reel; Load Capacitance: 18pF; Frequency Tolerance: +/-20ppm; Frequency: 25MHz
footprint WE-XTAL_CFPX-180
pins: 1 OSC1, 2 GND, 3 OSC2, 4 GND

## 830055474
designator Y?, comment 25MHz, +/-50ppm, 16pF  (value not drawn)
WE-XTAL Quartz Crystal, size CFPX-180, 25MHz, +/-50ppm, 16pF; Part Number: 830055474; Frequency Stability: 50ppm; ComponentLink1Description: Manufacturer; ComponentLink1URL: http://www.we-online.de; ComponentLink2Description: Datasheet; ComponentLink2URL: https://katalog.we-online.com/pbs/datasheet/830055474.pdf; Published Date: March 2019; Publisher: Wurth Elektronik; Size: CFPX-180; Operating Temperature: -40 up to +85degC; Mounting Technology: SMT; Packaging: Tape and Reel; Load Capacitance: 16pF; Frequency Tolerance: +/-50ppm; Frequency: 25MHz
footprint WE-XTAL_CFPX-180
pins: 1 OSC1, 2 GND, 3 OSC2, 4 GND

## 830055951
designator Y?, comment 16MHz, +/-20ppm, 18pF  (value not drawn)
WE-XTAL Quartz Crystal, size CFPX-180, 16MHz, +/-20ppm, 18pF; Part Number: 830055951; Frequency Stability: 30ppm; ComponentLink1Description: Manufacturer; ComponentLink1URL: http://www.we-online.de; ComponentLink2Description: Datasheet; ComponentLink2URL: https://katalog.we-online.com/pbs/datasheet/830055951.pdf; Published Date: March 2019; Publisher: Wurth Elektronik; Size: CFPX-180; Operating Temperature: -40 up to +85degC; Mounting Technology: SMT; Packaging: Tape and Reel; Load Capacitance: 18pF; Frequency Tolerance: +/-20ppm; Frequency: 16MHz
footprint WE-XTAL_CFPX-180
pins: 1 OSC1, 2 GND, 3 OSC2, 4 GND

## 830055962
designator Y?, comment 30MHz, +/-10ppm, 12pF  (value not drawn)
WE-XTAL Quartz Crystal, size CFPX-180, 30MHz, +/-10ppm, 12pF; Part Number: 830055962; Frequency Stability: 10ppm; ComponentLink1Description: Manufacturer; ComponentLink1URL: http://www.we-online.de; ComponentLink2Description: Datasheet; ComponentLink2URL: https://katalog.we-online.com/pbs/datasheet/830055962.pdf; Published Date: March 2019; Publisher: Wurth Elektronik; Size: CFPX-180; Operating Temperature: -10 up to +60degC; Mounting Technology: SMT; Packaging: Tape and Reel; Load Capacitance: 12pF; Frequency Tolerance: +/-10ppm; Frequency: 30MHz
footprint WE-XTAL_CFPX-180
pins: 1 OSC1, 2 GND, 3 OSC2, 4 GND

## 830056346
designator Y?, comment 12MHz, +/-30ppm, 18pF  (value not drawn)
WE-XTAL Quartz Crystal, size CFPX-180, 12MHz, +/-30ppm, 18pF; Part Number: 830056346; Frequency Stability: 30ppm; ComponentLink1Description: Manufacturer; ComponentLink1URL: http://www.we-online.de; ComponentLink2Description: Datasheet; ComponentLink2URL: https://katalog.we-online.com/pbs/datasheet/830056346.pdf; Published Date: March 2019; Publisher: Wurth Elektronik; Size: CFPX-180; Operating Temperature: -40 up to +85degC; Mounting Technology: SMT; Packaging: Tape and Reel; Load Capacitance: 18pF; Frequency Tolerance: +/-30ppm; Frequency: 12MHz
footprint WE-XTAL_CFPX-180
pins: 1 OSC1, 2 GND, 3 OSC2, 4 GND

## 830057824
designator Y?, comment 27MHz, +/-20ppm, 18pF  (value not drawn)
WE-XTAL Quartz Crystal, size CFPX-180, 27MHz, +/-20ppm, 18pF; Part Number: 830057824; Frequency Stability: 30ppm; ComponentLink1Description: Manufacturer; ComponentLink1URL: http://www.we-online.de; ComponentLink2Description: Datasheet; ComponentLink2URL: https://katalog.we-online.com/pbs/datasheet/830057824.pdf; Published Date: March 2019; Publisher: Wurth Elektronik; Size: CFPX-180; Operating Temperature: -40 up to +85degC; Mounting Technology: SMT; Packaging: Tape and Reel; Load Capacitance: 18pF; Frequency Tolerance: +/-20ppm; Frequency: 27MHz
footprint WE-XTAL_CFPX-180
pins: 1 OSC1, 2 GND, 3 OSC2, 4 GND

## 830058124
designator Y?, comment 24MHz, +/-20ppm, 18pF  (value not drawn)
WE-XTAL Quartz Crystal, size CFPX-180, 24MHz, +/-20ppm, 18pF; Part Number: 830058124; Frequency Stability: 30ppm; ComponentLink1Description: Manufacturer; ComponentLink1URL: http://www.we-online.de; ComponentLink2Description: Datasheet; ComponentLink2URL: https://katalog.we-online.com/pbs/datasheet/830058124.pdf; Published Date: March 2019; Publisher: Wurth Elektronik; Size: CFPX-180; Operating Temperature: -40 up to +85degC; Mounting Technology: SMT; Packaging: Tape and Reel; Load Capacitance: 18pF; Frequency Tolerance: +/-20ppm; Frequency: 24MHz
footprint WE-XTAL_CFPX-180
pins: 1 OSC1, 2 GND, 3 OSC2, 4 GND

## 830058149
designator Y?, comment 24MHz, +/-10ppm, 10pF  (value not drawn)
WE-XTAL Quartz Crystal, size CFPX-180, 24MHz, +/-10ppm, 10pF; Part Number: 830058149; Frequency Stability: 10ppm; ComponentLink1Description: Manufacturer; ComponentLink1URL: http://www.we-online.de; ComponentLink2Description: Datasheet; ComponentLink2URL: https://katalog.we-online.com/pbs/datasheet/830058149.pdf; Published Date: March 2019; Publisher: Wurth Elektronik; Size: CFPX-180; Operating Temperature: -20 up to +70degC; Mounting Technology: SMT; Packaging: Tape and Reel; Load Capacitance: 10pF; Frequency Tolerance: +/-10ppm; Frequency: 24MHz
footprint WE-XTAL_CFPX-180
pins: 1 OSC1, 2 GND, 3 OSC2, 4 GND

## 830059638
designator Y?, comment 20MHz, +/-20ppm, 18pF  (value not drawn)
WE-XTAL Quartz Crystal, size CFPX-180, 20MHz, +/-20ppm, 18pF; Part Number: 830059638; Frequency Stability: 30ppm; ComponentLink1Description: Manufacturer; ComponentLink1URL: http://www.we-online.de; ComponentLink2Description: Datasheet; ComponentLink2URL: https://katalog.we-online.com/pbs/datasheet/830059638.pdf; Published Date: March 2019; Publisher: Wurth Elektronik; Size: CFPX-180; Operating Temperature: -40 up to +85degC; Mounting Technology: SMT; Packaging: Tape and Reel; Load Capacitance: 18pF; Frequency Tolerance: +/-20ppm; Frequency: 20MHz
footprint WE-XTAL_CFPX-180
pins: 1 OSC1, 2 GND, 3 OSC2, 4 GND

## 830059643
designator Y?, comment 26MHz, +/-20ppm, 18pF  (value not drawn)
WE-XTAL Quartz Crystal, size CFPX-180, 26MHz, +/-20ppm, 18pF; Part Number: 830059643; Frequency Stability: 30ppm; ComponentLink1Description: Manufacturer; ComponentLink1URL: http://www.we-online.de; ComponentLink2Description: Datasheet; ComponentLink2URL: https://katalog.we-online.com/pbs/datasheet/830059643.pdf; Published Date: March 2019; Publisher: Wurth Elektronik; Size: CFPX-180; Operating Temperature: -40 up to +85degC; Mounting Technology: SMT; Packaging: Tape and Reel; Load Capacitance: 18pF; Frequency Tolerance: +/-20ppm; Frequency: 26MHz
footprint WE-XTAL_CFPX-180
pins: 1 OSC1, 2 GND, 3 OSC2, 4 GND

## 830059646
designator Y?, comment 30MHz, +/-20ppm, 18pF  (value not drawn)
WE-XTAL Quartz Crystal, size CFPX-180, 30MHz, +/-20ppm, 18pF; Part Number: 830059646; Frequency Stability: 30ppm; ComponentLink1Description: Manufacturer; ComponentLink1URL: http://www.we-online.de; ComponentLink2Description: Datasheet; ComponentLink2URL: https://katalog.we-online.com/pbs/datasheet/830059646.pdf; Published Date: March 2019; Publisher: Wurth Elektronik; Size: CFPX-180; Operating Temperature: -40 up to +85degC; Mounting Technology: SMT; Packaging: Tape and Reel; Load Capacitance: 18pF; Frequency Tolerance: +/-20ppm; Frequency: 30MHz
footprint WE-XTAL_CFPX-180
pins: 1 OSC1, 2 GND, 3 OSC2, 4 GND

## 830059648
designator Y?, comment 40MHz, +/-20ppm, 18pF  (value not drawn)
WE-XTAL Quartz Crystal, size CFPX-180, 40MHz, +/-20ppm, 18pF; Part Number: 830059648; Frequency Stability: 30ppm; ComponentLink1Description: Manufacturer; ComponentLink1URL: http://www.we-online.de; ComponentLink2Description: Datasheet; ComponentLink2URL: https://katalog.we-online.com/pbs/datasheet/830059648.pdf; Published Date: March 2019; Publisher: Wurth Elektronik; Size: CFPX-180; Operating Temperature: -40 up to +85degC; Mounting Technology: SMT; Packaging: Tape and Reel; Load Capacitance: 18pF; Frequency Tolerance: +/-20ppm; Frequency: 40MHz
footprint WE-XTAL_CFPX-180
pins: 1 OSC1, 2 GND, 3 OSC2, 4 GND

## 830059800
designator Y?, comment 25MHz, +/-10ppm, 10pF  (value not drawn)
WE-XTAL Quartz Crystal, size CFPX-180, 25MHz, +/-10ppm, 10pF; Part Number: 830059800; Frequency Stability: 10ppm; ComponentLink1Description: Manufacturer; ComponentLink1URL: http://www.we-online.de; ComponentLink2Description: Datasheet; ComponentLink2URL: https://katalog.we-online.com/pbs/datasheet/830059800.pdf; Published Date: March 2019; Publisher: Wurth Elektronik; Size: CFPX-180; Operating Temperature: -10 up to +60degC; Mounting Technology: SMT; Packaging: Tape and Reel; Load Capacitance: 10pF; Frequency Tolerance: +/-10ppm; Frequency: 25MHz
footprint WE-XTAL_CFPX-180
pins: 1 OSC1, 2 GND, 3 OSC2, 4 GND

## 830060258
designator Y?, comment 32MHz, +/-30ppm, 10pF  (value not drawn)
WE-XTAL Quartz Crystal, size CFPX-180, 32MHz, +/-30ppm, 10pF; Part Number: 830060258; Frequency Stability: 30ppm; ComponentLink1Description: Manufacturer; ComponentLink1URL: http://www.we-online.de; ComponentLink2Description: Datasheet; ComponentLink2URL: https://katalog.we-online.com/pbs/datasheet/830060258.pdf; Published Date: March 2019; Publisher: Wurth Elektronik; Size: CFPX-180; Operating Temperature: -20 up to +70degC; Mounting Technology: SMT; Packaging: Tape and Reel; Load Capacitance: 10pF; Frequency Tolerance: +/-30ppm; Frequency: 32MHz
footprint WE-XTAL_CFPX-180
pins: 1 OSC1, 2 GND, 3 OSC2, 4 GND

## 830060843
designator Y?, comment 50MHz, +/-25ppm, 10pF  (value not drawn)
WE-XTAL Quartz Crystal, size CFPX-180, 50MHz, +/-25ppm, 10pF; Part Number: 830060843; Frequency Stability: 25ppm; ComponentLink1Description: Manufacturer; ComponentLink1URL: http://www.we-online.de; ComponentLink2Description: Datasheet; ComponentLink2URL: https://katalog.we-online.com/pbs/datasheet/830060843.pdf; Published Date: March 2019; Publisher: Wurth Elektronik; Size: CFPX-180; Operating Temperature: -20 up to +70degC; Mounting Technology: SMT; Packaging: Tape and Reel; Load Capacitance: 10pF; Frequency Tolerance: +/-25ppm; Frequency: 50MHz
footprint WE-XTAL_CFPX-180
pins: 1 OSC1, 2 GND, 3 OSC2, 4 GND

## 830061647
designator Y?, comment 12MHz, +/-20ppm, 12pF  (value not drawn)
WE-XTAL Quartz Crystal, size CFPX-180, 12MHz, +/-20ppm, 12pF; Part Number: 830061647; Frequency Stability: 30ppm; ComponentLink1Description: Manufacturer; ComponentLink1URL: http://www.we-online.de; ComponentLink2Description: Datasheet; ComponentLink2URL: https://katalog.we-online.com/pbs/datasheet/830061647.pdf; Published Date: March 2019; Publisher: Wurth Elektronik; Size: CFPX-180; Operating Temperature: -40 up to +85degC; Mounting Technology: SMT; Packaging: Tape and Reel; Load Capacitance: 12pF; Frequency Tolerance: +/-20ppm; Frequency: 12MHz
footprint WE-XTAL_CFPX-180
pins: 1 OSC1, 2 GND, 3 OSC2, 4 GND

## 830061677
designator Y?, comment 32MHz, +/-20ppm, 12pF  (value not drawn)
WE-XTAL Quartz Crystal, size CFPX-180, 32MHz, +/-20ppm, 12pF; Part Number: 830061677; Frequency Stability: 30ppm; ComponentLink1Description: Manufacturer; ComponentLink1URL: http://www.we-online.de; ComponentLink2Description: Datasheet; ComponentLink2URL: https://katalog.we-online.com/pbs/datasheet/830061677.pdf; Published Date: March 2019; Publisher: Wurth Elektronik; Size: CFPX-180; Operating Temperature: -40 up to +85degC; Mounting Technology: SMT; Packaging: Tape and Reel; Load Capacitance: 12pF; Frequency Tolerance: +/-20ppm; Frequency: 32MHz
footprint WE-XTAL_CFPX-180
pins: 1 OSC1, 2 GND, 3 OSC2, 4 GND

## 830063321
designator Y?, comment 25MHz, +/-20ppm, 18pF  (value not drawn)
WE-XTAL Quartz Crystal, size CFPX-180, 25MHz, +/-20ppm, 18pF; Part Number: 830063321; Frequency Stability: 50ppm; ComponentLink1Description: Manufacturer; ComponentLink1URL: http://www.we-online.de; ComponentLink2Description: Datasheet; ComponentLink2URL: https://katalog.we-online.com/pbs/datasheet/830063321.pdf; Published Date: March 2019; Publisher: Wurth Elektronik; Size: CFPX-180; Operating Temperature: -40 up to +85degC; Mounting Technology: SMT; Packaging: Tape and Reel; Load Capacitance: 18pF; Frequency Tolerance: +/-20ppm; Frequency: 25MHz
footprint WE-XTAL_CFPX-180
pins: 1 OSC1, 2 GND, 3 OSC2, 4 GND

## 830064296
designator Y?, comment 16MHz, +/-20ppm, 8pF  (value not drawn)
WE-XTAL Quartz Crystal, size CFPX-180, 16MHz, +/-20ppm, 8pF; Part Number: 830064296; Frequency Stability: 20ppm; ComponentLink1Description: Manufacturer; ComponentLink1URL: http://www.we-online.de; ComponentLink2Description: Datasheet; ComponentLink2URL: https://katalog.we-online.com/pbs/datasheet/830064296.pdf; Published Date: March 2019; Publisher: Wurth Elektronik; Size: CFPX-180; Operating Temperature: -10 up to +70degC; Mounting Technology: SMT; Packaging: Tape and Reel; Load Capacitance: 8pF; Frequency Tolerance: +/-20ppm; Frequency: 16MHz
footprint WE-XTAL_CFPX-180
pins: 1 OSC1, 2 GND, 3 OSC2, 4 GND

## 830064703
designator Y?, comment 24MHz, +/-20ppm, 18pF  (value not drawn)
WE-XTAL Quartz Crystal, size CFPX-180, 24MHz, +/-20ppm, 18pF; Part Number: 830064703; Frequency Stability: 50ppm; ComponentLink1Description: Manufacturer; ComponentLink1URL: http://www.we-online.de; ComponentLink2Description: Datasheet; ComponentLink2URL: https://katalog.we-online.com/pbs/datasheet/830064703.pdf; Published Date: March 2019; Publisher: Wurth Elektronik; Size: CFPX-180; Operating Temperature: -40 up to +85degC; Mounting Technology: SMT; Packaging: Tape and Reel; Load Capacitance: 18pF; Frequency Tolerance: +/-20ppm; Frequency: 24MHz
footprint WE-XTAL_CFPX-180
pins: 1 OSC1, 2 GND, 3 OSC2, 4 GND

## 830068911
designator Y?, comment 25MHz, +/-30ppm, 18pF  (value not drawn)
WE-XTAL Quartz Crystal, size CFPX-180, 25MHz, +/-30ppm, 18pF; Part Number: 830068911; Frequency Stability: 50ppm; ComponentLink1Description: Manufacturer; ComponentLink1URL: http://www.we-online.de; ComponentLink2Description: Datasheet; ComponentLink2URL: https://katalog.we-online.com/pbs/datasheet/830068911.pdf; Published Date: March 2019; Publisher: Wurth Elektronik; Size: CFPX-180; Operating Temperature: -20 up to +70degC; Mounting Technology: SMT; Packaging: Tape and Reel; Load Capacitance: 18pF; Frequency Tolerance: +/-30ppm; Frequency: 25MHz
footprint WE-XTAL_CFPX-180
pins: 1 OSC1, 2 GND, 3 OSC2, 4 GND

## 830069377
designator Y?, comment 32MHz, +/-20ppm, 18pF  (value not drawn)
WE-XTAL Quartz Crystal, size CFPX-180, 32MHz, +/-20ppm, 18pF; Part Number: 830069377; Frequency Stability: 30ppm; ComponentLink1Description: Manufacturer; ComponentLink1URL: http://www.we-online.de; ComponentLink2Description: Datasheet; ComponentLink2URL: https://katalog.we-online.com/pbs/datasheet/830069377.pdf; Published Date: March 2019; Publisher: Wurth Elektronik; Size: CFPX-180; Operating Temperature: -40 up to +85degC; Mounting Technology: SMT; Packaging: Tape and Reel; Load Capacitance: 18pF; Frequency Tolerance: +/-20ppm; Frequency: 32MHz
footprint WE-XTAL_CFPX-180
pins: 1 OSC1, 2 GND, 3 OSC2, 4 GND

## 830069882
designator Y?, comment 12MHz, +/-30ppm, 10pF  (value not drawn)
WE-XTAL Quartz Crystal, size CFPX-180, 12MHz, +/-30ppm, 10pF; Part Number: 830069882; Frequency Stability: 100ppm; ComponentLink1Description: Manufacturer; ComponentLink1URL: http://www.we-online.de; ComponentLink2Description: Datasheet; ComponentLink2URL: https://katalog.we-online.com/pbs/datasheet/830069882.pdf; Published Date: March 2019; Publisher: Wurth Elektronik; Size: CFPX-180; Operating Temperature: -40 up to +125degC; Mounting Technology: SMT; Packaging: Tape and Reel; Load Capacitance: 10pF; Frequency Tolerance: +/-30ppm; Frequency: 12MHz
footprint WE-XTAL_CFPX-180
pins: 1 OSC1, 2 GND, 3 OSC2, 4 GND